# Altium integrated library WE-SLM_rev15a.intlib: 5 symbols
Pins are listed as number, name and electrical type; pins without a type are passive.

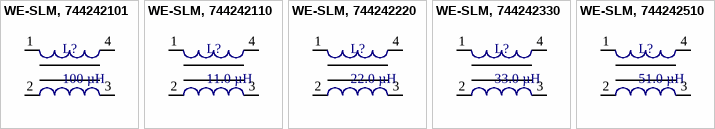
[diagram p0: symbols WE-SLM, 744242101 to WE-SLM, 744242510]

## WE-SLM, 744242101
designator L?, comment 100 µH
SMD Common Mode Line Filter WE-SLM, L=100 µH; partNo: 744242101; Manufacturer: Würth Elektronik eiSos GmbH; Inductance: 100 µH; ComponentLink1Description: Manufacturer; ComponentLink1URL: http://www.we-online.de; Created by: Christin Zierenner; Created Date: November 2009; ComponentLink2Description: Datasheet; ComponentLink2URL: http://www.we-online.de/katalog/media/pdf/744242101.pdf
footprint WE-SLM (SMD Inductor, 4-Leads, Body 3,6x6,3mm)
pins: 1, 2, 3, 4

## WE-SLM, 744242110
designator L?, comment 11.0 µH
SMD Common Mode Line Filter WE-SLM, L=11.0 µH; partNo: 744242110; Manufacturer: Würth Elektronik eiSos GmbH; Inductance: 11.0 µH; ComponentLink1Description: Manufacturer; ComponentLink1URL: http://www.we-online.de; Created by: Christin Zierenner; Created Date: November 2009; ComponentLink2Description: Datasheet; ComponentLink2URL: http://www.we-online.de/katalog/media/pdf/744242110.pdf
footprint WE-SLM (SMD Inductor, 4-Leads, Body 3,6x6,3mm)
pins: 1, 2, 3, 4

## WE-SLM, 744242220
designator L?, comment 22.0 µH
SMD Common Mode Line Filter WE-SLM, L=22.0 µH; partNo: 744242220; Manufacturer: Würth Elektronik eiSos GmbH; Inductance: 22.0 µH; ComponentLink1Description: Manufacturer; ComponentLink1URL: http://www.we-online.de; Created by: Christin Zierenner; Created Date: November 2009; ComponentLink2Description: Datasheet; ComponentLink2URL: http://www.we-online.de/katalog/media/pdf/744242220.pdf
footprint WE-SLM (SMD Inductor, 4-Leads, Body 3,6x6,3mm)
pins: 1, 2, 3, 4

## WE-SLM, 744242330
designator L?, comment 33.0 µH
SMD Common Mode Line Filter WE-SLM, L=33.0 µH; partNo: 744242330; Manufacturer: Würth Elektronik eiSos GmbH; Inductance: 33.0 µH; ComponentLink1Description: Manufacturer; ComponentLink1URL: http://www.we-online.de; Created by: Christin Zierenner; Created Date: November 2009; ComponentLink2Description: Datasheet; ComponentLink2URL: http://www.we-online.de/katalog/media/pdf/744242330.pdf
footprint WE-SLM (SMD Inductor, 4-Leads, Body 3,6x6,3mm)
pins: 1, 2, 3, 4

## WE-SLM, 744242510
designator L?, comment 51.0 µH
SMD Common Mode Line Filter WE-SLM, L=51.0 µH; partNo: 744242510; Manufacturer: Würth Elektronik eiSos GmbH; Inductance: 51.0 µH; ComponentLink1Description: Manufacturer; ComponentLink1URL: http://www.we-online.de; Created by: Christin Zierenner; Created Date: November 2009; ComponentLink2Description: Datasheet; ComponentLink2URL: http://www.we-online.de/katalog/media/pdf/744242510.pdf
footprint WE-SLM (SMD Inductor, 4-Leads, Body 3,6x6,3mm)
pins: 1, 2, 3, 4